# EAGLE library part EP2W+ (library maholli)
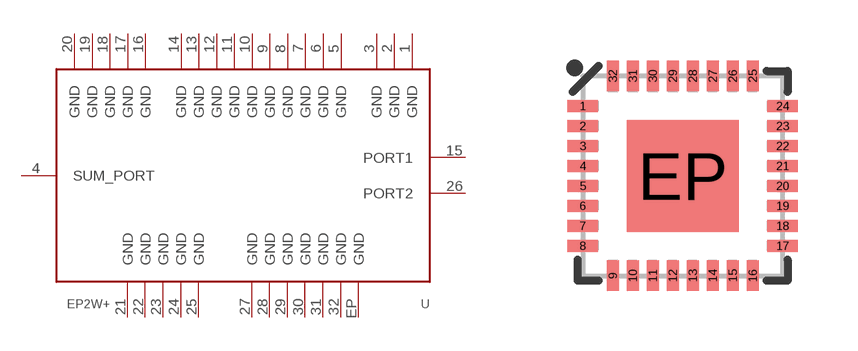
[diagram p1: symbol with the pads of QFN32-5X5MM; footprint QFN32-5X5MM]

Designator prefix U

## EP2W+  [QFN32-5X5MM]
1  GND
2  GND
3  GND
4  SUM_PORT
5  GND
6  GND
7  GND
8  GND
9  GND
10  GND
11  GND
12  GND
13  GND
14  GND
15  PORT1
16  GND
17  GND
18  GND
19  GND
20  GND
21  GND
22  GND
23  GND
24  GND
25  GND
26  PORT2
27  GND
28  GND
29  GND
30  GND
31  GND
32  GND
EP  GND

## Footprint QFN32-5X5MM (pad centres in mm)
32-pin QFN 5.0 x 5.0 mm, 0.5mm pitch Used by ESP8266 Datasheet <http://espressif.com/sites/default/files/documentation/0a-esp8266_datasheet_en_v4.4.pdf>
smd 0.762 x 0.305: 1 -2.5,1.75; 2 -2.5,1.25; 3 -2.5,0.75; 4 -2.5,0.25; 5 -2.5,-0.25; 6 -2.5,-0.75; 7 -2.5,-1.25; 8 -2.5,-1.75; 17 2.5,-1.75; 18 2.5,-1.25; 19 2.5,-0.75; 20 2.5,-0.25; 21 2.5,0.25; 22 2.5,0.75; 23 2.5,1.25; 24 2.5,1.75
smd 0.305 x 0.762: 9 -1.75,-2.5; 10 -1.25,-2.5; 11 -0.75,-2.5; 12 -0.25,-2.5; 13 0.25,-2.5; 14 0.75,-2.5; 15 1.25,-2.5; 16 1.75,-2.5; 25 1.75,2.5; 26 1.25,2.5; 27 0.75,2.5; 28 0.25,2.5; 29 -0.25,2.5; 30 -0.75,2.5; 31 -1.25,2.5; 32 -1.75,2.5
smd 2.794 x 2.794: EP 0,0